# Altium footprint library WR-TBL_Rising Cage Clamp_7.50mm.PcbLib: 17 footprints (part 2 of 2)
Each footprint in its own frame and in the unit in brackets; x right, y up, seen from the top. Pads: shape width x height; smd on the part's side, far side on the other; paste and mask are expansions set on the pad; w line width, h text height; cw(c..) or ccw(c..) is an arc to the next point about the centre after c.
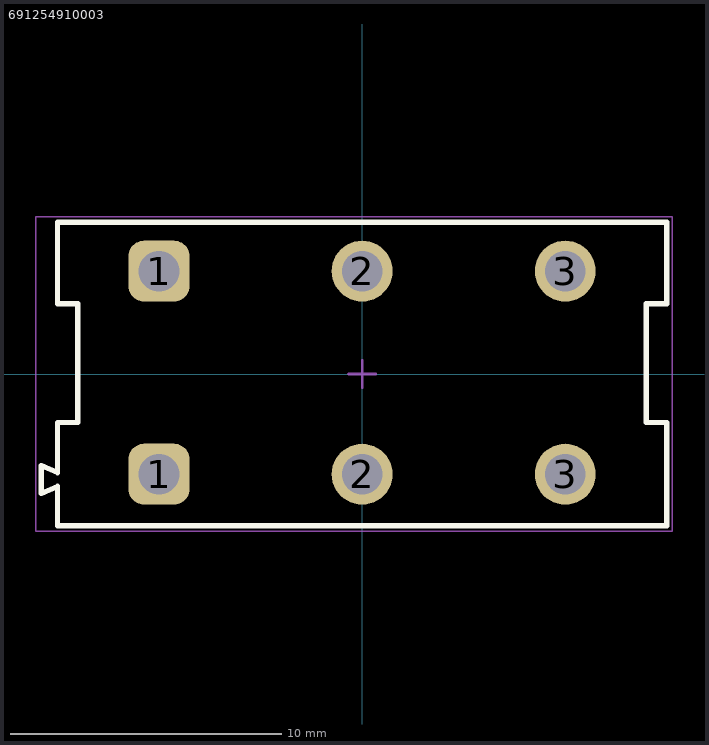
[diagram p1: the footprint, top view; thin cyan lines are the x and y axes]

## 691254910003 [mm] "Serie 2549-7.50mm Horizontal Cable Entry with Rising Cage Clamp, 3 pins"
height 18
pads (6):
  rrect50% 2.25x2.25 hole 1.5: 1(-7.5,-3.7) 1(-7.5,3.8)
  round 2.25 hole 1.5: 2(0,-3.7) 2(0,3.8) 3(7.5,-3.7) 3(7.5,3.8)
Top Overlay:
  lines w0.2: -11.85,-4.41 -11.85,-3.38 -11.25,-3.64 -11.25,-1.79 -10.5,-1.79 -10.5,2.59 -11.25,2.59 -11.25,5.6 11.25,5.6 11.25,2.59 10.5,2.59 10.5,-1.79 11.25,-1.79 11.25,-5.6 -11.25,-5.6 -11.25,-4.15 -11.85,-4.41
Top Assembly:
  lines w0.1: -11.85,-4.41 -11.25,-4.15 -11.25,-5.6 11.25,-5.6 11.25,-1.79 10.5,-1.79 10.5,2.59 11.25,2.59 11.25,5.6 -11.25,5.6 -11.25,2.59 -10.5,2.59 -10.5,-1.79 -11.25,-1.79 -11.25,-3.64 -11.85,-3.38 -11.85,-4.41
Top Designator:
  text ".Designator" at -3.647,-0.357 h1
Top 3D Body:
  lines w0.1: -11.85,-4.41 -11.85,-3.38 -11.25,-3.64 -11.25,-1.79 -10.5,-1.79 -10.5,2.59 -11.25,2.59 -11.25,5.6 11.25,5.6 11.25,2.59 10.5,2.59 10.5,-1.79 11.25,-1.79 11.25,-5.6 -11.25,-5.6 -11.25,-4.15 -11.85,-4.41
Top Courtyard:
  lines w0.05: -12.05,-5.8 -12.05,5.8 11.45,5.8 11.45,-5.8 -12.05,-5.8
Top Component Center:
  lines w0.1: -0.5,0 0.5,0 ; 0,-0.5 0,0.5
3D body "691254910003.stp": height 18.1, standoff -3.4, extent -11.85,-5.6 11.25,5.6